# Altium footprint library LTC6820HMS_PBF.PcbLib: 3 footprints
Each footprint in its own frame and in the unit in brackets; x right, y up, seen from the top. Pads: shape width x height; smd on the part's side, far side on the other; paste and mask are expansions set on the pad; w line width, h text height; cw(c..) or ccw(c..) is an arc to the next point about the centre after c.
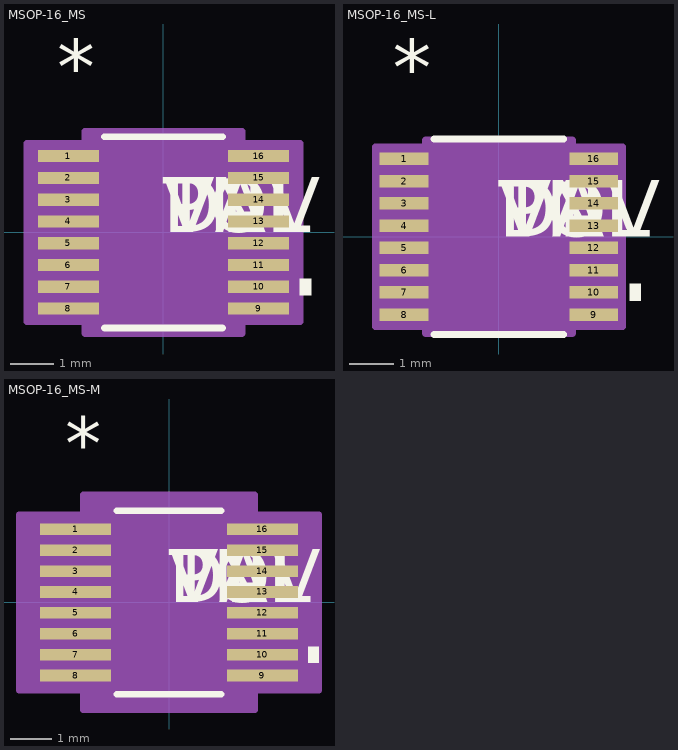
[diagram p0: the footprints below, top view; thin cyan lines are the x and y axes]

## MSOP-16_MS [mil]
pads (16):
  rect 55x11 smd: 1(-86,68.95) 2(-86,49.25) 3(-86,29.55) 4(-86,9.85) 5(-86,-9.85) 6(-86,-29.55) 7(-86,-49.25) 8(-86,-68.95) 9(86,-68.95) 10(86,-49.25) 11(86,-29.55) 12(86,-9.85) 13(86,9.85) 14(86,29.55) 15(86,49.25) 16(86,68.95)
Top Overlay:
  region: 123.5,-41.75 133.5,-41.75 133.5,-56.75 123.5,-56.75
  lines w6: -53.36,-86.5 53.36,-86.5 ; -53.36,86.5 53.36,86.5
  text "*" at -96,124.95 h50
  text "PN" at 0,0 h50
  text "DEV" at 0,0 h50
  text "VAL" at 0,0 h50
  text "TOL" at 0,0 h50
Mechanical 13:
  lines w0: -12,81.5 ccw(c0,81.5) 12,81.5
  text "*" at -46,78.5 h50
  text "RefDes2" at 0,0 h50
Mechanical 15:
  region: -71,-80.8 -123.5,-80.8 -123.5,80.8 -71,80.8 -71,91.5 71,91.5 71,80.8 123.5,80.8 123.5,-80.8 71,-80.8 71,-91.5 -71,-91.5
  lines w6: -123.5,-80.8 -123.5,80.8 -71,80.8 -71,91.5 71,91.5 71,80.8 123.5,80.8 123.5,-80.8 71,-80.8 71,-91.5 -71,-91.5 -71,-80.8 -123.5,-80.8
3D body "MSOP-16_MS.stp": height 43.1, standoff 0, extent -99.5,-81.5 99.5,81.5

## MSOP-16_MS-L [mil]
pads (16):
  rect 43x11 smd: 1(-84,68.95) 2(-84,49.25) 3(-84,29.55) 4(-84,9.85) 5(-84,-9.85) 6(-84,-29.55) 7(-84,-49.25) 8(-84,-68.95) 9(84,-68.95) 10(84,-49.25) 11(84,-29.55) 12(84,-9.85) 13(84,9.85) 14(84,29.55) 15(84,49.25) 16(84,68.95)
Top Overlay:
  region: 115.5,-41.75 125.5,-41.75 125.5,-56.75 115.5,-56.75
  lines w6: -57.36,-86.5 57.36,-86.5 ; -57.36,86.5 57.36,86.5
  text "*" at -94,124.95 h50
  text "PN" at 0,0 h50
  text "DEV" at 0,0 h50
  text "VAL" at 0,0 h50
  text "TOL" at 0,0 h50
Mechanical 13:
  lines w0: -12,81.5 ccw(c0,81.5) 12,81.5
  text "*" at -46,78.5 h50
  text "RefDes2" at 0,0 h50
Mechanical 15:
  region: -65,-79.6 -109.5,-79.6 -109.5,79.6 -65,79.6 -65,85.5 65,85.5 65,79.6 109.5,79.6 109.5,-79.6 65,-79.6 65,-85.5 -65,-85.5
  lines w6: -109.5,-79.6 -109.5,79.6 -65,79.6 -65,85.5 65,85.5 65,79.6 109.5,79.6 109.5,-79.6 65,-79.6 65,-85.5 -65,-85.5 -65,-79.6 -109.5,-79.6
3D body "MSOP-16_MS-L.stp": height 43.1, standoff 0, extent -99.5,-81.5 99.5,81.5

## MSOP-16_MS-M [mil]
pads (16):
  rect 67x11 smd: 1(-88,68.95) 2(-88,49.25) 3(-88,29.55) 4(-88,9.85) 5(-88,-9.85) 6(-88,-29.55) 7(-88,-49.25) 8(-88,-68.95) 9(88,-68.95) 10(88,-49.25) 11(88,-29.55) 12(88,-9.85) 13(88,9.85) 14(88,29.55) 15(88,49.25) 16(88,68.95)
Top Overlay:
  region: 131.5,-41.75 141.5,-41.75 141.5,-56.75 131.5,-56.75
  lines w6: -49.36,-86.5 49.36,-86.5 ; -49.36,86.5 49.36,86.5
  text "*" at -98,124.95 h50
  text "PN" at 0,0 h50
  text "DEV" at 0,0 h50
  text "VAL" at 0,0 h50
  text "TOL" at 0,0 h50
Mechanical 13:
  lines w0: -12,81.5 ccw(c0,81.5) 12,81.5
  text "*" at -46,78.5 h50
  text "RefDes2" at 0,0 h50
Mechanical 15:
  region: -81,-82.8 -141.5,-82.8 -141.5,82.8 -81,82.8 -81,101.5 81,101.5 81,82.8 141.5,82.8 141.5,-82.8 81,-82.8 81,-101.5 -81,-101.5
  lines w6: -141.5,-82.8 -141.5,82.8 -81,82.8 -81,101.5 81,101.5 81,82.8 141.5,82.8 141.5,-82.8 81,-82.8 81,-101.5 -81,-101.5 -81,-82.8 -141.5,-82.8
3D body "MSOP-16_MS-M.stp": height 43.1, standoff 0, extent -99.5,-81.5 99.5,81.5